# EAGLE library part STM32F103C8T6BOARD (library stm32board)
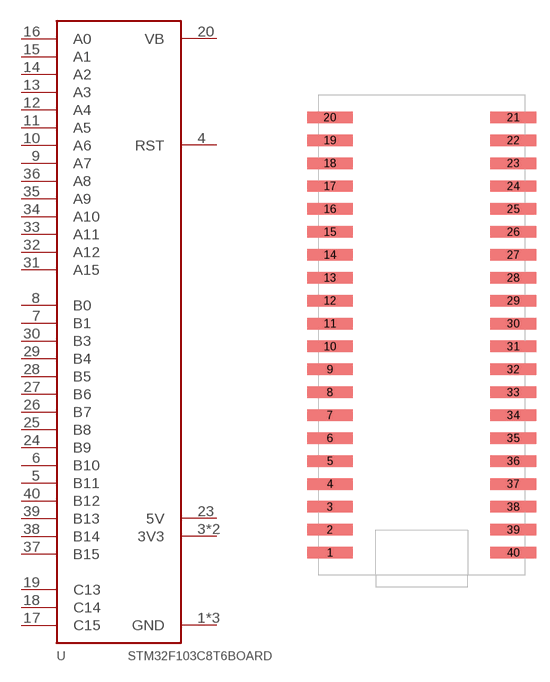
[diagram p0: symbol with the pads of STM32F103C8T6BOARD; footprint STM32F103C8T6BOARD]

Designator prefix -

## STM32F103C8T6BOARD  [STM32F103C8T6BOARD]
1  GND
2  GND
3  3V3
4  RST
5  B11
6  B10
7  B1
8  B0
9  A7
10  A6
11  A5
12  A4
13  A3
14  A2
15  A1
16  A0
17  C15
18  C14
19  C13
20  VB
21  3V3
22  GND
23  5V
24  B9
25  B8
26  B7
27  B6
28  B5
29  B4
30  B3
31  A15
32  A12
33  A11
34  A10
35  A9
36  A8
37  B15
38  B14
39  B13
40  B12

## Footprint STM32F103C8T6BOARD (pad centres in mm)
smd 5.08 x 1.27: 1 -10.16,0; 2 -10.16,2.54; 3 -10.16,5.08; 4 -10.16,7.62; 5 -10.16,10.16; 6 -10.16,12.7; 7 -10.16,15.24; 8 -10.16,17.78; 9 -10.16,20.32; 10 -10.16,22.86; 11 -10.16,25.4; 12 -10.16,27.94; 13 -10.16,30.48; 14 -10.16,33.02; 15 -10.16,35.56; 16 -10.16,38.1; 17 -10.16,40.64; 18 -10.16,43.18; 19 -10.16,45.72; 20 -10.16,48.26; 21 10.16,48.26; 22 10.16,45.72; 23 10.16,43.18; 24 10.16,40.64; 25 10.16,38.1; 26 10.16,35.56; 27 10.16,33.02; 28 10.16,30.48; 29 10.16,27.94; 30 10.16,25.4; 31 10.16,22.86; 32 10.16,20.32; 33 10.16,17.78; 34 10.16,15.24; 35 10.16,12.7; 36 10.16,10.16; 37 10.16,7.62; 38 10.16,5.08; 39 10.16,2.54; 40 10.16,0